# EAGLE library part MC34071DG (library ON Semiconductor_By_element14_Batch_1)
Single Supply 3.0 V to 44 V Operational Amplifiers
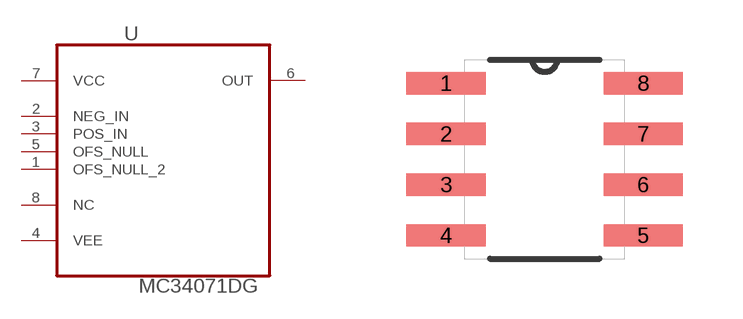
[diagram p393: symbol with the pads of SOIC127P600X175-8N; footprint SOIC127P600X175-8N]

Designator prefix U

## MC34071DG (MPN: MC34071DG; OC_FARNELL: 1468744; OC_NEWARK: 45J1214; P1I: o; PACKAGE: SOIC-8; SUPPLIER: Onsemiconductor)  [SOIC127P600X175-8N]
1  OFS_NULL_2  in
2  NEG_IN  in
3  POS_IN  in
4  VEE  pwr
5  OFS_NULL  in
6  OUT  out
7  VCC  pwr
8  NC  nc

## Footprint SOIC127P600X175-8N (pad centres in mm)
smd 1.981 x 0.559: 1 -2.464,1.905; 2 -2.464,0.635; 3 -2.464,-0.635; 4 -2.464,-1.905; 5 2.464,-1.905; 6 2.464,-0.635; 7 2.464,0.635; 8 2.464,1.905